# Altium footprint library inne.PcbLib: 3 footprints
Each footprint in its own frame and in the unit in brackets; x right, y up, seen from the top. Pads: shape width x height; smd on the part's side, far side on the other; paste and mask are expansions set on the pad; w line width, h text height; cw(c..) or ccw(c..) is an arc to the next point about the centre after c.
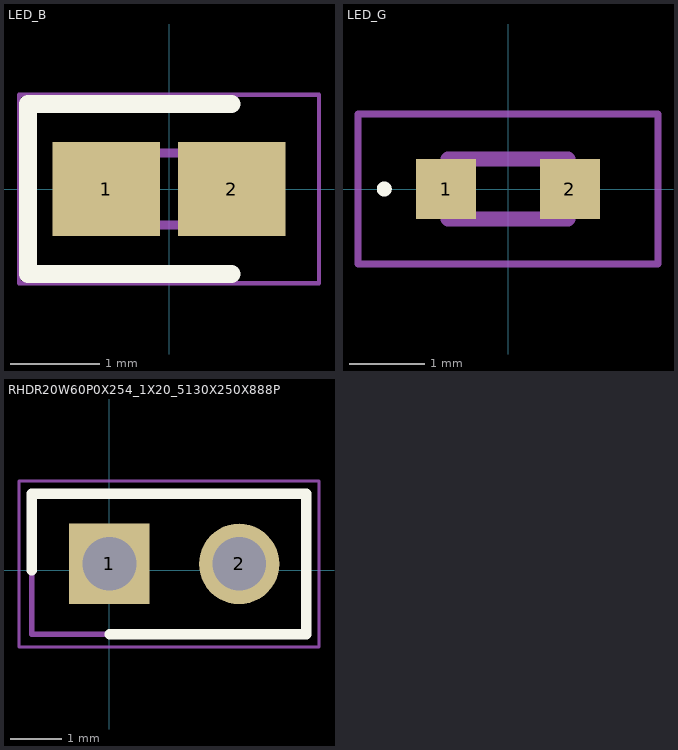
[diagram p0: the footprints below, top view; thin cyan lines are the x and y axes]

## LED_B [mm] "SML-LX0603USBW-TR"
pads (2):
  rect 1.2x1.05 smd: 1(-0.7,0) 2(0.7,0)
Top Overlay:
  lines w0.2: 0.7,-0.95 -1.575,-0.95 -1.575,0.95 0.7,0.95
Top Component Outline:
  lines w0.1: -0.8,0.133 -0.533,0.4 ; -0.8,-0.4 -0.8,0.4 0.8,0.4 0.8,-0.4 -0.8,-0.4
Top Assembly:
  lines w0.05: -1.675,-1.05 -1.675,1.05 1.675,1.05 1.675,-1.05 -1.675,-1.05

## LED_G [mm] "SML-LXFM0603SUGCTR"
pads (2):
  rect 0.8x0.8 smd: 1(-0.825,0) 2(0.825,0)
Top Overlay:
  lines w0.1: -1.7,0 ccw(c-1.65,0) -1.6,0 ccw(c-1.65,0) -1.7,0
Top Component Outline:
  lines w0.2: -0.8,-0.4 -0.8,0.4 0.8,0.4 0.8,-0.4 -0.8,-0.4
Top Assembly:
  lines w0.1: -2,-1 -2,1 2,1 2,-1 -2,-1
3D body "SML-LXFM0603SUGCTR.stp": height 1.2, standoff 0, extent -0.8,-0.4 0.8,0.4

## RHDR20W60P0X254_1X20_5130X250X888P [mm]
pads (2):
  rect 1.575x1.575 hole 1.05: 1(0,0.127)
  round 1.575 hole 1.05: 2(2.54,0.127)
Top Overlay:
  lines w0.2: -1.52,0 -1.52,1.5 3.852,1.5 3.852,-1.25 0,-1.25
Top Component Outline:
  lines w0.1: -1.52,-1.25 -1.52,1.5 3.852,1.5 3.852,-1.25 -1.52,-1.25
Top Assembly:
  lines w0.05: -1.77,-1.5 -1.77,1.75 4.102,1.75 4.102,-1.5 -1.77,-1.5